# EAGLE library part MBH7BLZ02-109004 (library fujitsu)
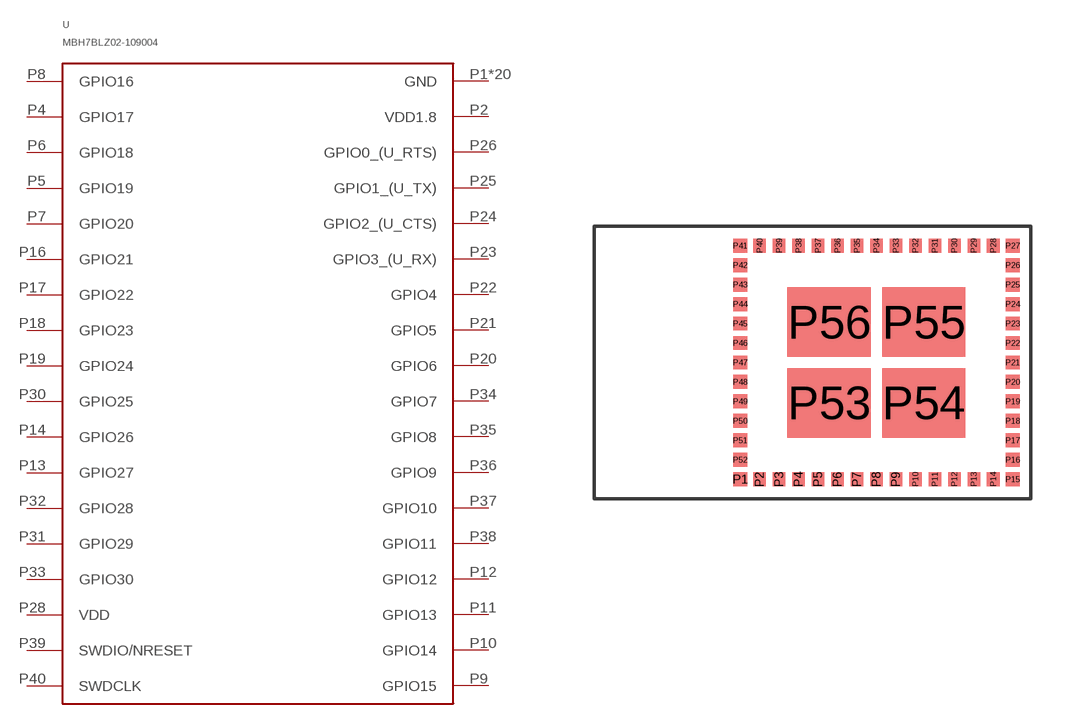
[diagram p1: symbol with the pads of MBH7BLZ02-109004; footprint MBH7BLZ02-109004]

Designator prefix U

## MBH7BLZ02-109004  [MBH7BLZ02-109004]
P1  GND
P2  VDD1.8
P3  GND
P4  GPIO17
P5  GPIO19
P6  GPIO18
P7  GPIO20
P8  GPIO16
P9  GPIO15
P10  GPIO14
P11  GPIO13
P12  GPIO12
P13  GPIO27
P14  GPIO26
P15  GND
P16  GPIO21
P17  GPIO22
P18  GPIO23
P19  GPIO24
P20  GPIO6
P21  GPIO5
P22  GPIO4
P23  GPIO3_(U_RX)
P24  GPIO2_(U_CTS)
P25  GPIO1_(U_TX)
P26  GPIO0_(U_RTS)
P27  GND
P28  VDD
P29  GND
P30  GPIO25
P31  GPIO29
P32  GPIO28
P33  GPIO30
P34  GPIO7
P35  GPIO8
P36  GPIO9
P37  GPIO10
P38  GPIO11
P39  SWDIO/NRESET
P40  SWDCLK
P41  GND
P42  GND
P43  GND
P44  GND
P45  GND
P46  GND
P47  GND
P48  GND
P49  GND
P50  GND
P52  GND
P53  GND
P54  GND
P55  GND
P56  GND

## Footprint MBH7BLZ02-109004 (pad centres in mm)
smd 0.5 x 0.5: P1 -2.6,-4.2; P15 7.2,-4.2; P16 7.2,-3.5; P17 7.2,-2.8; P18 7.2,-2.1; P19 7.2,-1.4; P20 7.2,-0.7; P21 7.2,0; P22 7.2,0.7; P23 7.2,1.4; P24 7.2,2.1; P25 7.2,2.8; P26 7.2,3.5; P27 7.2,4.2; P41 -2.6,4.2; P42 -2.6,3.5; P43 -2.6,2.8; P44 -2.6,2.1; P45 -2.6,1.4; P46 -2.6,0.7; P47 -2.6,0; P48 -2.6,-0.7; P49 -2.6,-1.4; P50 -2.6,-2.1; P51 -2.6,-2.8; P52 -2.6,-3.5
smd 0.45 x 0.5: P2 -1.9,-4.2; P3 -1.2,-4.2; P4 -0.5,-4.2; P5 0.2,-4.2; P6 0.9,-4.2; P7 1.6,-4.2; P8 2.3,-4.2; P9 3,-4.2; P10 3.7,-4.2; P11 4.4,-4.2; P12 5.1,-4.2; P13 5.8,-4.2; P14 6.5,-4.2; P28 6.5,4.2; P29 5.8,4.2; P30 5.1,4.2; P31 4.4,4.2; P32 3.7,4.2; P33 3,4.2; P34 2.3,4.2; P35 1.6,4.2; P36 0.9,4.2; P37 0.2,4.2; P38 -0.5,4.2; P39 -1.2,4.2; P40 -1.9,4.2
smd 3 x 2.5: P53 0.6,-1.45; P54 4,-1.45; P55 4,1.45; P56 0.6,1.45